# EAGLE library part DS9503 (library debauer_ics)
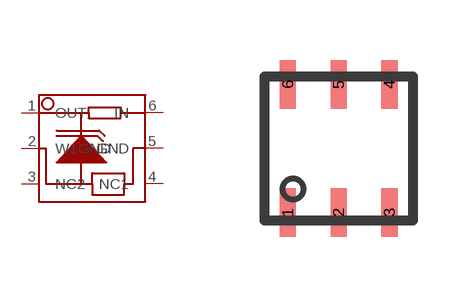
[diagram p21: symbol with the pads of TSOC6; footprint TSOC6]

Designator prefix -

## DS9503  [TSOC6]
1  OUT
2  W1GND
3  NC2
4  NC1
5  GND
6  IN

## Footprint TSOC6 (pad centres in mm)
TSOC 6
smd 0.406 x 1.219: 1 -1.27,-1.6; 2 0,-1.6; 3 1.27,-1.6; 4 1.27,1.6; 5 0,1.6; 6 -1.27,1.6